# EAGLE library part 100DP3T1B2M2QE (library dsantoro-sw)
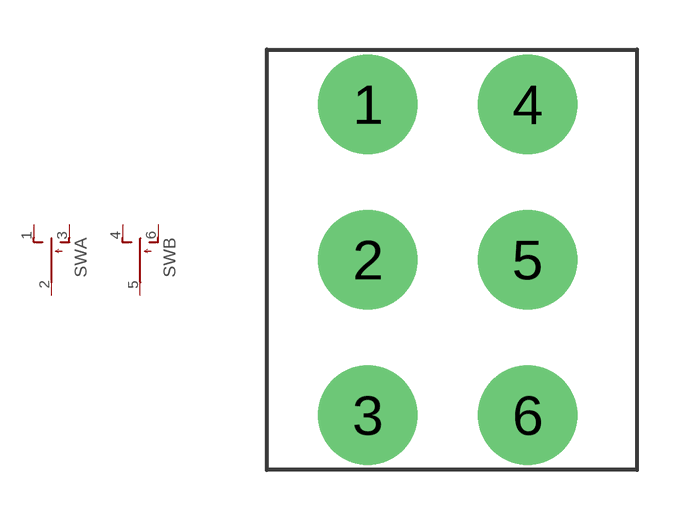
[diagram p2: symbol with the pads of 100DP3T1B2M2QE; footprint 100DP3T1B2M2QE]

Designator prefix SW; gates A=ON-OFF-MOM B=ON-OFF-MOM

## 100DP3T1B2M2QE  [100DP3T1B2M2QE]
1  A:1  pas
2  A:2  pas
3  A:3  pas
4  B:1  pas
5  B:2  pas
6  B:3  pas

## Footprint 100DP3T1B2M2QE (pad centres in mm)
drill 2: 1 0,0; 2 0,-4.699; 3 0,-9.398; 4 4.826,0; 5 4.826,-4.699; 6 4.826,-9.398